# Altium footprint library 5PinHeader.PcbLib: 1 footprints
Each footprint in its own frame and in the unit in brackets; x right, y up, seen from the top. Pads: shape width x height; smd on the part's side, far side on the other; paste and mask are expansions set on the pad; w line width, h text height; cw(c..) or ccw(c..) is an arc to the next point about the centre after c.
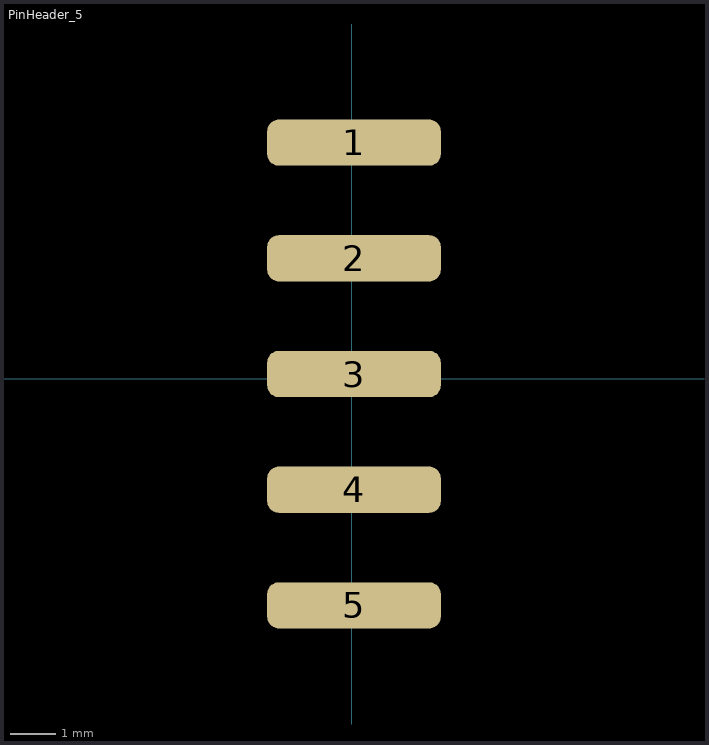
[diagram p0: the footprint, top view; thin cyan lines are the x and y axes]

## PinHeader_5 [mil]
pads (5):
  rrect50% 150x40 smd: 1(2,204) 2(2,104) 3(2,4) 4(2,-96) 5(2,-196)